# Altium schematic symbol library Thyristor.SchLib: 1 symbol
Pins are listed as number, name and electrical type; pins without a type are passive.

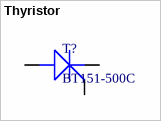
[diagram p0: symbol Thyristor]

## Thyristor
designator T?, comment BT151-500C
pins: 1 A, 2 K, 3 G